# Altium footprint library INA700_STAMP_V1.0.PcbLib: 2 footprints
Each footprint in its own frame and in the unit in brackets; x right, y up, seen from the top. Pads: shape width x height; smd on the part's side, far side on the other; paste and mask are expansions set on the pad; w line width, h text height; cw(c..) or ccw(c..) is an arc to the next point about the centre after c.
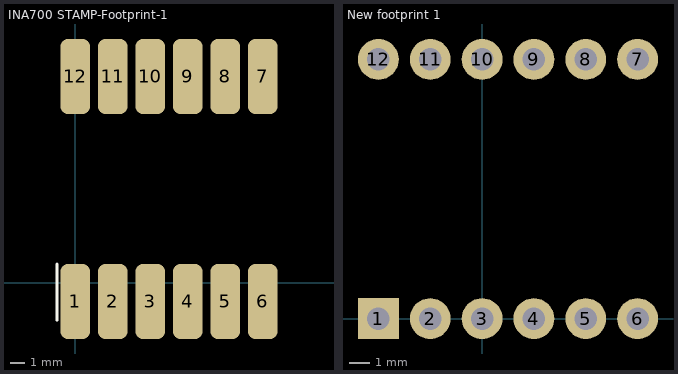
[diagram p0: the footprints below, top view; thin cyan lines are the x and y axes]

## INA700 STAMP-Footprint-1 [mm]
pads (12):
  rrect50% 2x5.08 smd: 1(0,-1.27) 2(2.54,-1.27) 3(5.08,-1.27) 4(7.62,-1.27) 5(10.16,-1.27) 6(12.7,-1.27) 7(12.7,13.97) 8(10.16,13.97) 9(7.62,13.97) 10(5.08,13.97) 11(2.54,13.97) 12(0,13.97)
Top Overlay:
  lines w0.2: -1.24,-2.54 -1.24,1.26
3D body "PCB.step": height 9.32, standoff 0.03, extent -1.27,-2.54 13.97,15.24

## New footprint 1 [mm]
pads (12):
  rect 2x2 hole 1.1: 1(-5.08,0)
  round 2 hole 1.1: 2(-2.54,0) 3(0,0) 4(2.54,0) 5(5.08,0) 6(7.62,0) 7(7.62,12.7) 8(5.08,12.7) 9(2.54,12.7) 10(0,12.7) 11(-2.54,12.7) 12(-5.08,12.7)
3D body "PCB.step": height 10.7, standoff 1.41, extent -6.35,-2.54 8.89,15.24
3D body "Download_STP_61300611121 (rev1).stp": height 4.27, standoff -7.27, extent -6.35,-1.27 8.89,1.27
3D body "Download_STP_61300611121 (rev1).stp": height 4.27, standoff -7.27, extent -6.35,11.43 8.89,13.97